# EAGLE library part MAX77734*? (library MAX77734)
MAX77734 micropower Li charger + LDO Default Options (changeable via I2C): B: vLDO=1.8v, Ichg=475mA, CHG_EN=0, LDO_EN=0 C: vLDO=3.3v, Ichg=95mA, CHG_EN=0, LDO_EN=1 G: vLDO=3.3v, Ichg=95mA, CHG_EN=1, LDO_EN=1 Q: vLDO=3.3v, Ichg=475mA, CHG_EN=1, LDO_EN=1
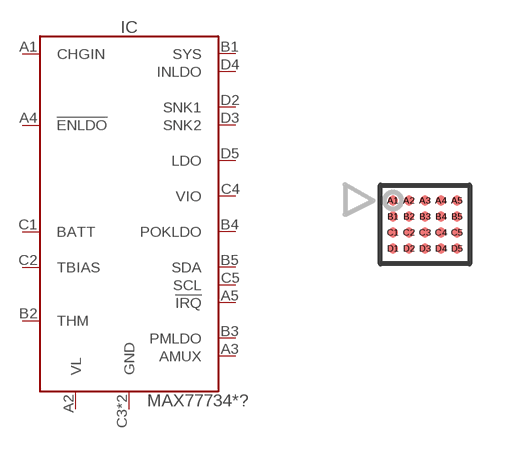
[diagram p0: symbol with the pads of WLCSP-BGA-4X5-0.4MM; footprint WLCSP-BGA-4X5-0.4MM]

Designator prefix IC

## MAX77734BENP+ (ADDRESS: 0x48; MF: Maxim; MPN: MAX77734BENP+), MAX77734CENP+ (ADDRESS: 0x48; MF: Maxim; MPN: MAX77734CENP+), MAX77734GENP+ (ADDRESS: 0x48; MF: Maxim; MPN: MAX77734GENP+), MAX77734QENP+ (ADDRESS: 0x48; MF: Maxim; MPN: MAX77734QENP+)  [WLCSP-BGA-4X5-0.4MM]
A1  CHGIN  in
A2  VL
A3  AMUX  out
A4  !ENLDO
A5  !IRQ  oc
B1  SYS  out
B2  THM  in
B3  PMLDO  in
B4  POKLDO  oc
B5  SDA  oc
C1  BATT
C2  TBIAS  out
C3  GND  pwr
C4  VIO  in
C5  SCL  oc
D1  GND  pwr
D2  SNK1
D3  SNK2
D4  INLDO  in
D5  LDO  out

## Footprint WLCSP-BGA-4X5-0.4MM (pad centres in mm)
smd 0.25 x 0.25: A1 -0.8,0.6; A2 -0.4,0.6; A3 0,0.6; A4 0.4,0.6; A5 0.8,0.6; B1 -0.8,0.2; B2 -0.4,0.2; B3 0,0.2; B4 0.4,0.2; B5 0.8,0.2; C1 -0.8,-0.2; C2 -0.4,-0.2; C3 0,-0.2; C4 0.4,-0.2; C5 0.8,-0.2; D1 -0.8,-0.6; D2 -0.4,-0.6; D3 0,-0.6; D4 0.4,-0.6; D5 0.8,-0.6